# Altium footprint library 0201ZK100GBSTR.PcbLib: 3 footprints
Each footprint in its own frame and in the unit in brackets; x right, y up, seen from the top. Pads: shape width x height; smd on the part's side, far side on the other; paste and mask are expansions set on the pad; w line width, h text height; cw(c..) or ccw(c..) is an arc to the next point about the centre after c.
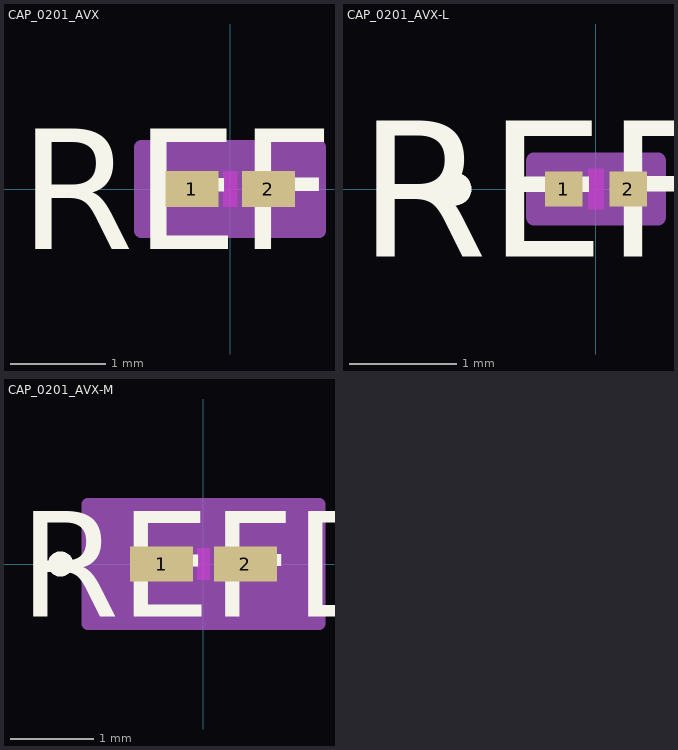
[diagram p0: the footprints below, top view; thin cyan lines are the x and y axes]

## CAP_0201_AVX [mm]
pads (2):
  rect 0.556x0.375 smd paste+0 mask+0: 1(-0.403,0) 2(0.403,0)
Top Layer keep-out:
  region: -0.074,-0.137 -0.074,0.137 0.074,0.137 0.074,-0.137
Top Overlay:
  text "REFDES" at -2.222,-0.635 h1.27
Keep-Out Layer:
  region: -0.074,-0.188 -0.074,0.188 0.074,0.188 0.074,-0.188
Mechanical 13:
  circle w0: c-0.276,0 r0
  lines w0.025: -0.325,-0.188 -0.325,0.188 ; -0.325,-0.188 -0.125,-0.188 -0.125,0.188 -0.325,0.188 ; -0.325,-0.188 0.325,-0.188 ; -0.325,-0.188 -0.325,0.188 ; -0.325,0.188 0.325,0.188 ; 0.325,-0.188 0.125,-0.188 0.125,0.188 0.325,0.188 ; 0.325,-0.188 0.325,0.188 ; 0.325,-0.188 0.325,0.188
  text "RefDes2" at -2.222,-0.635 h1.27
Mechanical 15:
  region: 0.935,-0.442 -0.935,-0.442 -0.935,0.442 0.935,0.442
  lines w0.152: -0.935,-0.442 -0.935,0.442 0.935,0.442 0.935,-0.442 -0.935,-0.442
3D body "CAP_0201_AVX.step": height 0.28, standoff 0, extent -0.325,-0.188 0.325,0.188

## CAP_0201_AVX-L [mm]
pads (2):
  rect 0.352x0.324 smd paste+0 mask+0: 1(-0.301,0) 2(0.301,0)
Top Layer keep-out:
  region: -0.074,-0.137 -0.074,0.137 0.074,0.137 0.074,-0.137
Top Overlay:
  circle w0.152: c-1.316,0 r0.076
  text "REFDES" at -2.222,-0.635 h1.27
Keep-Out Layer:
  region: -0.074,-0.188 -0.074,0.188 0.074,0.188 0.074,-0.188
Mechanical 13:
  circle w0: c-0.174,0 r0.076
  lines w0.025: -0.325,-0.188 -0.325,0.188 ; -0.325,-0.188 -0.125,-0.188 -0.125,0.188 -0.325,0.188 ; -0.325,-0.188 0.325,-0.188 ; -0.325,-0.188 -0.325,0.188 ; -0.325,0.188 0.325,0.188 ; 0.325,-0.188 0.125,-0.188 0.125,0.188 0.325,0.188 ; 0.325,-0.188 0.325,0.188 ; 0.325,-0.188 0.325,0.188
  text "RefDes2" at -2.222,-0.635 h1.27
Mechanical 15:
  region: 0.579,-0.264 -0.579,-0.264 -0.579,0.264 0.579,0.264
  lines w0.152: -0.579,-0.264 -0.579,0.264 0.579,0.264 0.579,-0.264 -0.579,-0.264
3D body "CAP_0201_AVX.step": height 0.28, standoff 0, extent -0.325,-0.188 0.325,0.188

## CAP_0201_AVX-M [mm]
pads (2):
  rect 0.759x0.426 smd paste+0 mask+0: 1(-0.504,0) 2(0.504,0)
Top Layer keep-out:
  region: -0.074,-0.137 -0.074,0.137 0.074,0.137 0.074,-0.137
Top Overlay:
  circle w0.152: c-1.722,0 r0.076
  text "REFDES" at -2.222,-0.635 h1.27
Keep-Out Layer:
  region: -0.074,-0.188 -0.074,0.188 0.074,0.188 0.074,-0.188
Mechanical 13:
  circle w0: c-0.377,0 r0.076
  lines w0.025: -0.325,-0.188 -0.325,0.188 ; -0.325,-0.188 -0.125,-0.188 -0.125,0.188 -0.325,0.188 ; -0.325,-0.188 0.325,-0.188 ; -0.325,-0.188 -0.325,0.188 ; -0.325,0.188 0.325,0.188 ; 0.325,-0.188 0.125,-0.188 0.125,0.188 0.325,0.188 ; 0.325,-0.188 0.325,0.188 ; 0.325,-0.188 0.325,0.188
  text "RefDes2" at -2.222,-0.635 h1.27
Mechanical 15:
  region: 1.392,-0.721 -1.392,-0.721 -1.392,0.721 1.392,0.721
  lines w0.152: -1.392,-0.721 -1.392,0.721 1.392,0.721 1.392,-0.721 -1.392,-0.721
3D body "CAP_0201_AVX.step": height 0.28, standoff 0, extent -0.325,-0.188 0.325,0.188